# EAGLE library part 613011143121 (library Board-to-Board (rev18a))
WR-PHD 2.54mm Angled Socket Header, 11 Pins =>Code : Con_BTB_SHD_2.54_1_THT_613011143121 <http://katalog.we-online.de/media/images/eican/Con_BTB_SHD_2.54_1_THT_6130xx143121_pf2.jpg> Details see: http://katalog.we-online.de/en/em/613_0xx_143_121 Created 2014-05-29, Karrer Zheng 2014 (C) Würth Elektronik
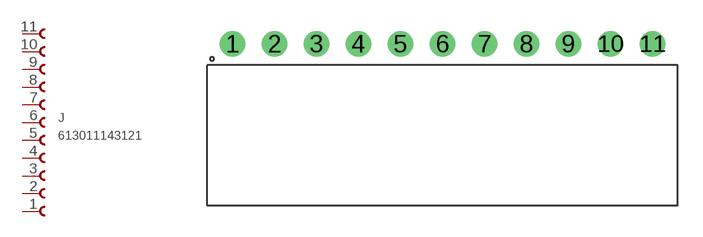
[diagram p131: symbol with the pads of 613011143121; footprint 613011143121]

Designator prefix J

## 613011143121  [613011143121]
1  11  pas
2  10  pas
3  9  pas
4  8  pas
5  7  pas
6  6  pas
7  5  pas
8  4  pas
9  3  pas
10  2  pas
11  1  pas

## Footprint 613011143121 (pad centres in mm)
WR-PHD 2.54mm Angled Socket Header, 11 Pins
drill 1.02: 1 -12.7,0; 2 -10.16,0; 3 -7.62,0; 4 -5.08,0; 5 -2.54,0; 6 0,0; 7 2.54,0; 8 5.08,0; 9 7.62,0; 10 10.16,0; 11 12.7,0